# Altium footprint library 贴片元器件.PCBLIB: 208 footprints (part 11 of 13)
Each footprint in its own frame and in the unit in brackets; x right, y up, seen from the top. Pads: shape width x height; smd on the part's side, far side on the other; paste and mask are expansions set on the pad; w line width, h text height; cw(c..) or ccw(c..) is an arc to the next point about the centre after c.
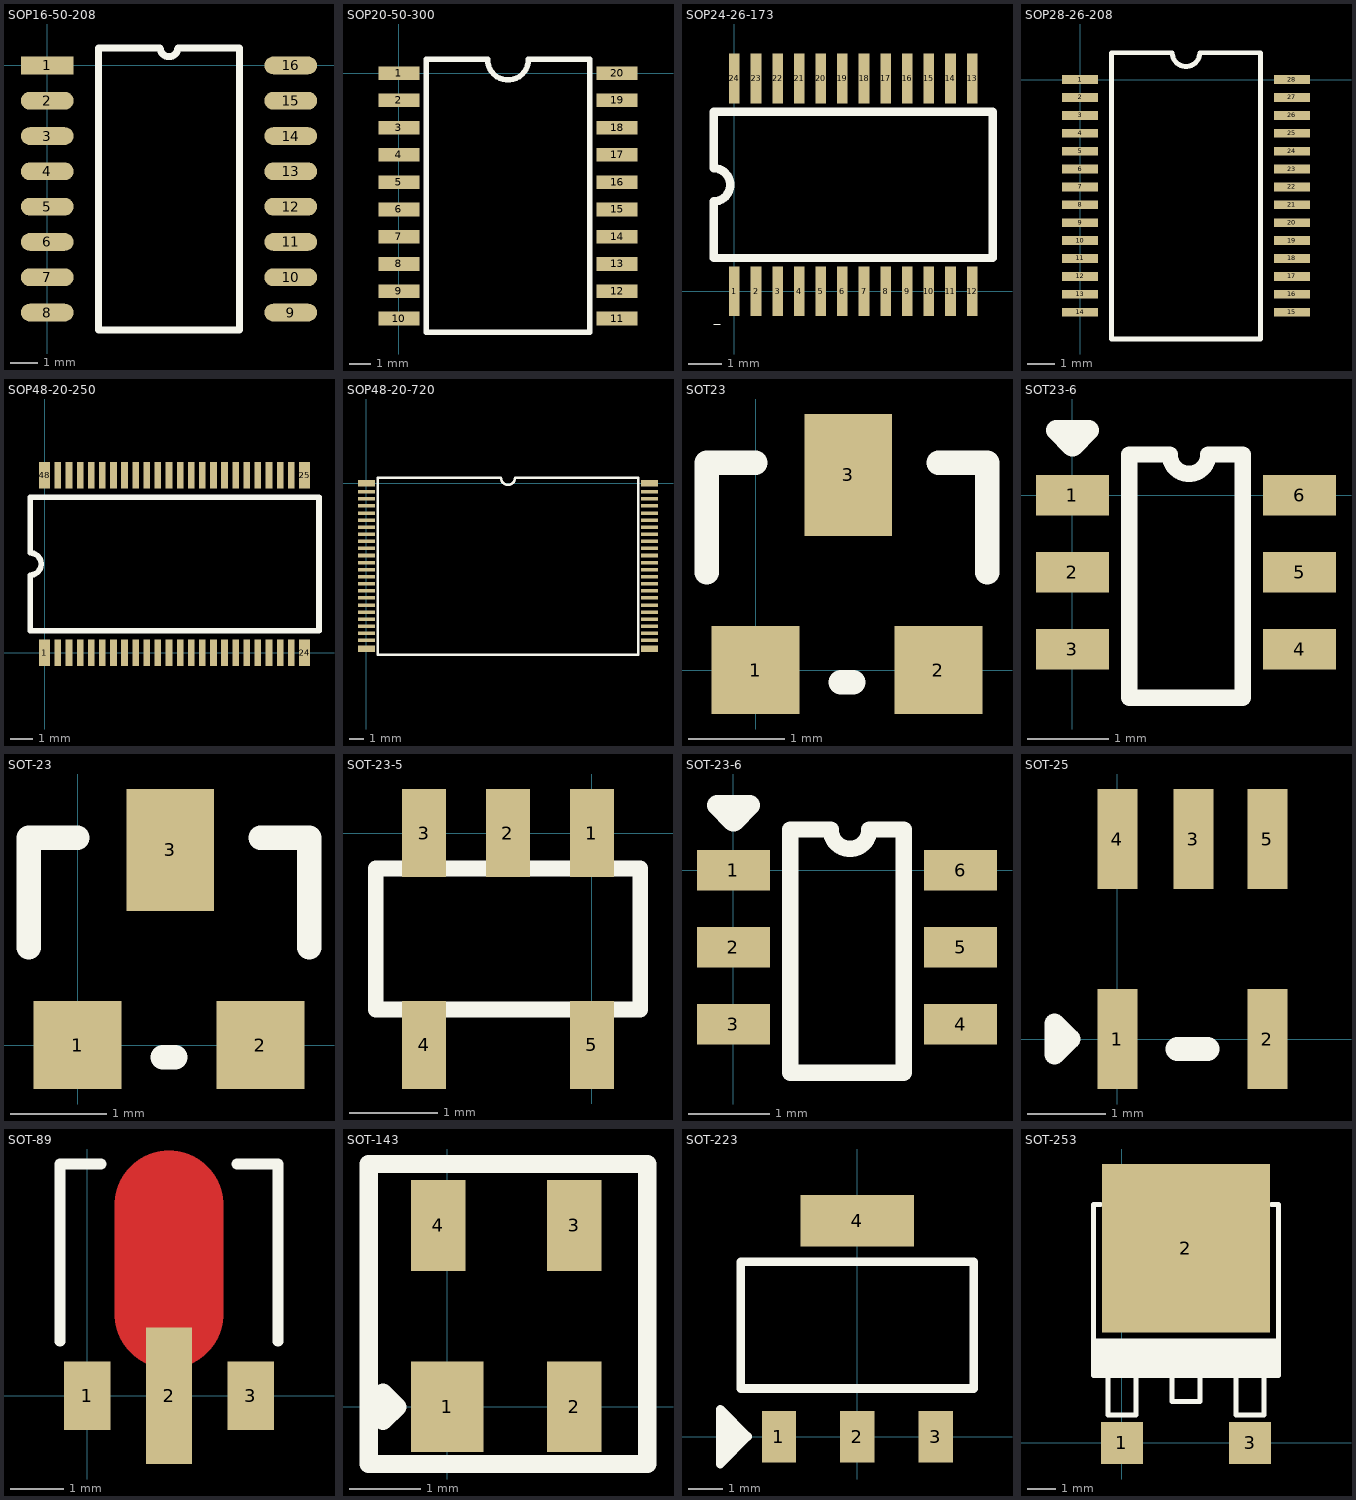
[diagram p10: the footprints below, top view; thin cyan lines are the x and y axes]

## SOP16-50-208 [mil]
pads (16):
  rect 75x25 smd: 1(0,0)
  oval 75x25 smd: 2(0,-50) 3(0,-100) 4(0,-150) 5(0,-200) 6(0,-250) 7(0,-300) 8(0,-350) 9(345,-350) 10(345,-300) 11(345,-250) 12(345,-200) 13(345,-150) 14(345,-100) 15(345,-50) 16(345,0)
TopOverlay:
  lines w10: 72.5,-375 72.5,25 160,25 ccw(c172.5,25) 185,25 272.5,25 272.5,-375 72.5,-375

## SOP20-50-300 [mm]
pads (20):
  rect 1.905x0.635 smd: 1(0,0) 2(0,-1.27) 3(0,-2.54) 4(0,-3.81) 5(0,-5.08) 6(0,-6.35) 7(0,-7.62) 8(0,-8.89) 9(0,-10.16) 10(0,-11.43) 11(10.16,-11.43) 12(10.16,-10.16) 13(10.16,-8.89) 14(10.16,-7.62) 15(10.16,-6.35) 16(10.16,-5.08) 17(10.16,-3.81) 18(10.16,-2.54) 19(10.16,-1.27) 20(10.16,0)
TopOverlay:
  lines w0.254: 1.27,-12.065 1.27,0.635 4.127,0.635 ccw(c5.08,0.635) 6.032,0.635 8.89,0.635 8.89,-12.065 1.27,-12.065

## SOP24-26-173 [mm]
pads (24):
  rect 0.32x1.5 smd: 1(0,0) 2(0.65,0) 3(1.3,0) 4(1.95,0) 5(2.6,0) 6(3.25,0) 7(3.9,0) 8(4.55,0) 9(5.2,0) 10(5.85,0) 11(6.5,0) 12(7.15,0) 13(7.15,6.4) 14(6.5,6.4) 15(5.85,6.4) 16(5.2,6.4) 17(4.55,6.4) 18(3.9,6.4) 19(3.25,6.4) 20(2.6,6.4) 21(1.95,6.4) 22(1.3,6.4) 23(0.65,6.4) 24(0,6.4)
TopOverlay:
  lines w0.025: -0.625,-1 -0.425,-1
  lines w0.254: -0.625,1 -0.625,2.7 ccw(c-0.625,3.2) -0.625,3.7 -0.625,5.4 7.775,5.4 7.775,1 -0.625,1

## SOP28-26-208 [mm]
pads (28):
  rect 1.3x0.32 smd: 1(0,0) 2(0,-0.65) 3(0,-1.3) 4(0,-1.95) 5(0,-2.6) 6(0,-3.25) 7(0,-3.9) 8(0,-4.55) 9(0,-5.2) 10(0,-5.85) 11(0,-6.5) 12(0,-7.15) 13(0,-7.8) 14(0,-8.45) 15(7.7,-8.45) 16(7.7,-7.8) 17(7.7,-7.15) 18(7.7,-6.5) 19(7.7,-5.85) 20(7.7,-5.2) 21(7.7,-4.55) 22(7.7,-3.9) 23(7.7,-3.25) 24(7.7,-2.6) 25(7.7,-1.95) 26(7.7,-1.3) 27(7.7,-0.65) 28(7.7,0)
TopOverlay:
  lines w0.178: 1.15,-9.425 6.55,-9.425 6.55,0.975 4.35,0.975 cw(c3.85,0.975) 3.35,0.975 1.15,0.975 1.15,-9.425

## SOP48-20-250 [mm]
pads (48):
  rect 0.5x1.2 smd: 1(0,0) 24(11.7,0) 25(11.7,8) 48(0,8)
  rect 0.3x1.2 smd: 2(0.6,0) 3(1.1,0) 4(1.6,0) 5(2.1,0) 6(2.6,0) 7(3.1,0) 8(3.6,0) 9(4.1,0) 10(4.6,0) 11(5.1,0) 12(5.6,0) 13(6.1,0) 14(6.6,0) 15(7.1,0) 16(7.6,0) 17(8.1,0) 18(8.6,0) 19(9.1,0) 20(9.6,0) 21(10.1,0) 22(10.6,0) 23(11.1,0) 26(11.1,8) 27(10.6,8) 28(10.1,8) 29(9.6,8) 30(9.1,8) 31(8.6,8) 32(8.1,8) 33(7.6,8) 34(7.1,8) 35(6.6,8) 36(6.1,8) 37(5.6,8) 38(5.1,8) 39(4.6,8) 40(4.1,8) 41(3.6,8) 42(3.1,8) 43(2.6,8) 44(2.1,8) 45(1.6,8) 46(1.1,8) 47(0.6,8)
TopOverlay:
  lines w0.254: -0.65,1 12.35,1 12.35,7 -0.65,7 -0.65,4.5 cw(c-0.65,4) -0.65,3.5 -0.65,1

## SOP48-20-720 [mm]
pads (48):
  rect 1.2x0.45 smd: 1(0,0) 24(0,-11.7) 25(20,-11.7) 48(20,0)
  rect 1.2x0.25 smd: 2(0,-0.6) 3(0,-1.1) 4(0,-1.6) 5(0,-2.1) 6(0,-2.6) 7(0,-3.1) 8(0,-3.6) 9(0,-4.1) 10(0,-4.6) 11(0,-5.1) 12(0,-5.6) 13(0,-6.1) 14(0,-6.6) 15(0,-7.1) 16(0,-7.6) 17(0,-8.1) 18(0,-8.6) 19(0,-9.1) 20(0,-9.6) 21(0,-10.1) 22(0,-10.6) 23(0,-11.1) 26(20,-11.1) 27(20,-10.6) 28(20,-10.1) 29(20,-9.6) 30(20,-9.1) 31(20,-8.6) 32(20,-8.1) 33(20,-7.6) 34(20,-7.1) 35(20,-6.6) 36(20,-6.1) 37(20,-5.6) 38(20,-5.1) 39(20,-4.6) 40(20,-4.1) 41(20,-3.6) 42(20,-3.1) 43(20,-2.6) 44(20,-2.1) 45(20,-1.6) 46(20,-1.1) 47(20,-0.6)
TopOverlay:
  lines w0.178: 0.8,-12.1 0.8,0.4 9.5,0.4 ccw(c10,0.4) 10.5,0.4 19.2,0.4 19.2,-12.1 0.8,-12.1

## SOT23 [mil]
pads (3):
  rect 36x36 smd: 1(0,0) 2(75,0)
  rect 36x50 smd: 3(38,80)
TopOverlay:
  lines w10: -20,40 -20,85 0,85 ; 35,-5 40,-5 ; 75,85 95,85 95,40

## SOT23-6 [mm]
pads (6):
  rect 0.9x0.5 smd: 1(0,0) 2(0,-0.95) 3(0,-1.9) 4(2.8,-1.9) 5(2.8,-0.95) 6(2.8,0)
TopOverlay:
  lines w0.2: 1.675,0.5 cw(c1.438,0.5) 1.2,0.5 0.7,0.5 0.7,-2.5 2.1,-2.5 2.1,0.5 1.7,0.5
  lines w0.254: -0.2,0.8 0.2,0.8 0,0.6 -0.2,0.8

## SOT-23 [mil]
pads (3):
  rect 36x36 smd: 1(0,0) 2(75,0)
  rect 36x50 smd: 3(38,80)
TopOverlay:
  lines w10: -20,40 -20,85 0,85 ; 35,-5 40,-5 ; 75,85 95,85 95,40

## SOT-23-5 [mm]
pads (5):
  rect 0.5x1 smd: 1(0,0) 2(-0.95,0) 3(-1.9,0) 4(-1.9,-2.4) 5(0,-2.4)
TopOverlay:
  lines w0.178: -2.45,-2 0.55,-2 0.55,-0.4 -2.45,-0.4 -2.45,-2

## SOT-23-6 [mm]
pads (6):
  rect 0.9x0.5 smd: 1(0,0) 2(0,-0.95) 3(0,-1.9) 4(2.8,-1.9) 5(2.8,-0.95) 6(2.8,0)
TopOverlay:
  lines w0.2: 1.675,0.5 cw(c1.438,0.5) 1.2,0.5 0.7,0.5 0.7,-2.5 2.1,-2.5 2.1,0.5 1.7,0.5
  lines w0.254: -0.2,0.8 0.2,0.8 0,0.6 -0.2,0.8

## SOT-25 [mil]
pads (5):
  rect 20x50 smd: 1(0,0) 2(75,0) 3(38,100) 4(0,100) 5(75,100)
TopOverlay:
  lines w10: -31.5,-7.87 -23.62,0 -31.5,7.87 -31.5,-7.87
  lines w12: 30,-5 45,-5

## SOT-89 [mil]
pads (3):
  rect 34x50 smd: 1(0,0) 3(120,0)
  rect 34x100 smd: 2(60,0)
TopLayer:
  lines w80: 60,60 60,140
TopOverlay:
  lines w8: -20,40 -20,170 10,170 ; 110,170 140,170 140,40

## SOT-143 [mil]
pads (4):
  rect 40x50 smd: 1(0,0)
  rect 30x50 smd: 2(70,0) 3(70,100) 4(-5,100)
TopOverlay:
  lines w10: -43.31,-31.5 -43.31,133.86 110.24,133.86 110.24,-31.5 -43.31,-31.5 ; -35.43,-7.87 -27.56,0 -35.43,7.87 -35.43,-7.87

## SOT-223 [mm]
pads (4):
  rect 1x1.5 smd: 1(-2.286,0) 2(0,0) 3(2.286,0)
  rect 3.3x1.5 smd: 4(0,6.299)
TopOverlay:
  lines w0.254: -3.8,-0.5 -3.8,0.3 -4,0.5 -3.5,0 -4,-0.5 -4,-0.8 ; -4,-0.8 -3.2,0 -4,0.8 -4,-0.8 ; -3.4,1.4 3.4,1.4 3.4,5.1 -3.4,5.1 -3.4,1.4

## SOT-253 [mm]
pads (3):
  rect 1.5x1.5 smd: 1(0,0) 3(4.57,0)
  rect 6x6 smd: 2(2.285,6.94)
TopOverlay:
  rectangle: -1.005,2.4 5.575,3.72
  lines w0.178: -0.755,8.5 -1.005,8.5 -1.005,2.4 5.575,2.4 5.575,8.5 5.325,8.5 ; -0.5,2.4 -0.5,1 0.5,1 0.5,2.4 ; 1.785,2.4 1.785,1.47 2.785,1.47 2.785,2.4 ; 4.07,2.4 4.07,1 5.07,1 5.07,2.4